# Altium footprint library BeagleBoneCape.PcbLib: 2 footprints
Each footprint in its own frame and in the unit in brackets; x right, y up, seen from the top. Pads: shape width x height; smd on the part's side, far side on the other; paste and mask are expansions set on the pad; w line width, h text height; cw(c..) or ccw(c..) is an arc to the next point about the centre after c.
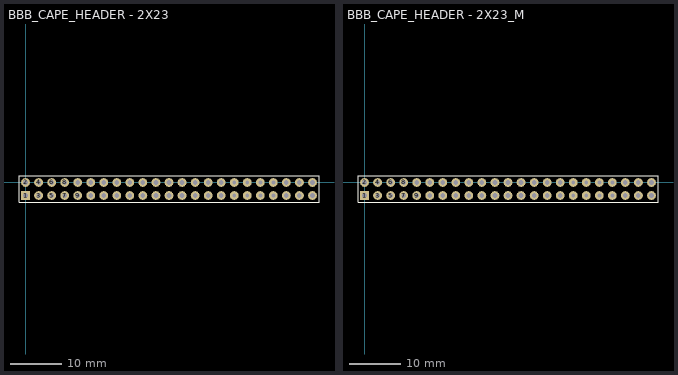
[diagram p0: the footprints below, top view; thin cyan lines are the x and y axes]

## BBB_CAPE_HEADER - 2X23 [mm] "46-pin male header for BeagleBone Black P8,P9"
pads (46):
  rect 1.7x1.7 hole 0.9: 1(0,-2.54)
  round 1.7 hole 0.9: 2(0,0) 3(2.54,-2.54) 4(2.54,0) 5(5.08,-2.54) 6(5.08,0) 7(7.62,-2.54) 8(7.62,0) 9(10.16,-2.54) 10(10.16,0) 11(12.7,-2.54) 12(12.7,0) 13(15.24,-2.54) 14(15.24,0) 15(17.78,-2.54) 16(17.78,0) 17(20.32,-2.54) 18(20.32,0) 19(22.86,-2.54) 20(22.86,0) 21(25.4,-2.54) 22(25.4,0) 23(27.94,-2.54) 24(27.94,0) 25(30.48,-2.54) 26(30.48,0) 27(33.02,-2.54) 28(33.02,0) 29(35.56,-2.54) 30(35.56,0) 31(38.1,-2.54) 32(38.1,0) 41(50.8,-2.54) 42(50.8,0) 43(53.34,-2.54) 44(53.34,0) 45(55.88,-2.54) 46(55.88,0)
  round 1.7 hole 0.762: 33(40.64,-2.54) 34(40.64,0) 35(43.18,-2.54) 36(43.18,0) 37(45.72,-2.54) 38(45.72,0) 39(48.26,-2.54) 40(48.26,0)
Top Overlay:
  lines w0.2: 57.15,1.25 57.15,-3.81 -1.27,-3.81 -1.27,1.27 0.635,1.27 57.15,1.27
3D body "HDR2.54-1P.STEP": height 8.5, standoff -3, extent 49.53,-1.27 52.07,1.27
3D body "HDR2.54-1P.STEP": height 8.5, standoff -3, extent 52.07,-3.81 54.61,-1.27
3D body "HDR2.54-1P.STEP": height 8.5, standoff -3, extent 24.13,-1.27 26.67,1.27
3D body "HDR2.54-1P.STEP": height 8.5, standoff -3, extent 52.07,-1.27 54.61,1.27
3D body "HDR2.54-1P.STEP": height 8.5, standoff -3, extent 36.83,-1.27 39.37,1.27
3D body "HDR2.54-1P.STEP": height 8.5, standoff -3, extent 21.59,-3.81 24.13,-1.27
3D body "HDR2.54-1P.STEP": height 8.5, standoff -3, extent 21.59,-1.27 24.13,1.27
3D body "HDR2.54-1P.STEP": height 8.5, standoff -3, extent 19.05,-1.27 21.59,1.27
3D body "HDR2.54-1P.STEP": height 8.5, standoff -3, extent 54.61,-3.81 57.15,-1.27
3D body "HDR2.54-1P.STEP": height 8.5, standoff -3, extent 54.61,-1.27 57.15,1.27
3D body "HDR2.54-1P.STEP": height 8.5, standoff -3, extent 3.81,-1.27 6.35,1.27
3D body "HDR2.54-1P.STEP": height 8.5, standoff -3, extent 1.27,-1.27 3.81,1.27
3D body "HDR2.54-1P.STEP": height 8.5, standoff -3, extent -1.27,-1.27 1.27,1.27
3D body "HDR2.54-1P.STEP": height 8.5, standoff -3, extent 16.51,-1.27 19.05,1.27
3D body "HDR2.54-1P.STEP": height 8.5, standoff -3, extent 13.97,-3.81 16.51,-1.27
3D body "HDR2.54-1P.STEP": height 8.5, standoff -3, extent 13.97,-1.27 16.51,1.27
3D body "HDR2.54-1P.STEP": height 8.5, standoff -3, extent 11.43,-3.81 13.97,-1.27
3D body "HDR2.54-1P.STEP": height 8.5, standoff -3, extent 11.43,-1.27 13.97,1.27
3D body "HDR2.54-1P.STEP": height 8.5, standoff -3, extent 8.89,-3.81 11.43,-1.27
3D body "HDR2.54-1P.STEP": height 8.5, standoff -3, extent 8.89,-1.27 11.43,1.27
3D body "HDR2.54-1P.STEP": height 8.5, standoff -3, extent 6.35,-3.81 8.89,-1.27
3D body "HDR2.54-1P.STEP": height 8.5, standoff -3, extent 3.81,-3.81 6.35,-1.27
3D body "HDR2.54-1P.STEP": height 8.5, standoff -3, extent 1.27,-3.81 3.81,-1.27
3D body "HDR2.54-1P.STEP": height 8.5, standoff -3, extent -1.27,-3.81 1.27,-1.27
3D body "HDR2.54-1P.STEP": height 8.5, standoff -3, extent 6.35,-1.27 8.89,1.27
3D body "HDR2.54-1P.STEP": height 8.5, standoff -3, extent 16.51,-3.81 19.05,-1.27
3D body "HDR2.54-1P.STEP": height 8.5, standoff -3, extent 24.13,-3.81 26.67,-1.27
3D body "HDR2.54-1P.STEP": height 8.5, standoff -3, extent 26.67,-1.27 29.21,1.27
3D body "HDR2.54-1P.STEP": height 8.5, standoff -3, extent 26.67,-3.81 29.21,-1.27
3D body "HDR2.54-1P.STEP": height 8.5, standoff -3, extent 29.21,-1.27 31.75,1.27
3D body "HDR2.54-1P.STEP": height 8.5, standoff -3, extent 29.21,-3.81 31.75,-1.27
3D body "HDR2.54-1P.STEP": height 8.5, standoff -3, extent 31.75,-1.27 34.29,1.27
3D body "HDR2.54-1P.STEP": height 8.5, standoff -3, extent 31.75,-3.81 34.29,-1.27
3D body "HDR2.54-1P.STEP": height 8.5, standoff -3, extent 34.29,-1.27 36.83,1.27
3D body "HDR2.54-1P.STEP": height 8.5, standoff -3, extent 34.29,-3.81 36.83,-1.27
3D body "HDR2.54-1P.STEP": height 8.5, standoff -3, extent 36.83,-3.81 39.37,-1.27
3D body "HDR2.54-1P.STEP": height 8.5, standoff -3, extent 39.37,-1.27 41.91,1.27
3D body "HDR2.54-1P.STEP": height 8.5, standoff -3, extent 39.37,-3.81 41.91,-1.27
3D body "HDR2.54-1P.STEP": height 8.5, standoff -3, extent 41.91,-1.27 44.45,1.27
3D body "HDR2.54-1P.STEP": height 8.5, standoff -3, extent 41.91,-3.81 44.45,-1.27
3D body "HDR2.54-1P.STEP": height 8.5, standoff -3, extent 44.45,-1.27 46.99,1.27
3D body "HDR2.54-1P.STEP": height 8.5, standoff -3, extent 46.99,-1.27 49.53,1.27
3D body "HDR2.54-1P.STEP": height 8.5, standoff -3, extent 44.45,-3.81 46.99,-1.27
3D body "HDR2.54-1P.STEP": height 8.5, standoff -3, extent 46.99,-3.81 49.53,-1.27
3D body "HDR2.54-1P.STEP": height 8.5, standoff -3, extent 49.53,-3.81 52.07,-1.27
3D body "HDR2.54-1P.STEP": height 8.5, standoff -3, extent 19.05,-3.81 21.59,-1.27

## BBB_CAPE_HEADER - 2X23_M [mm] "46-pin male header for BeagleBone Black P8,P9"
pads (46):
  rect 1.7x1.7 hole 0.9: 1(0,-2.54)
  round 1.7 hole 0.9: 2(0,0) 3(2.54,-2.54) 4(2.54,0) 5(5.08,-2.54) 6(5.08,0) 7(7.62,-2.54) 8(7.62,0) 9(10.16,-2.54) 10(10.16,0) 11(12.7,-2.54) 12(12.7,0) 13(15.24,-2.54) 14(15.24,0) 15(17.78,-2.54) 16(17.78,0) 17(20.32,-2.54) 18(20.32,0) 19(22.86,-2.54) 20(22.86,0) 21(25.4,-2.54) 22(25.4,0) 23(27.94,-2.54) 24(27.94,0) 25(30.48,-2.54) 26(30.48,0) 27(33.02,-2.54) 28(33.02,0) 29(35.56,-2.54) 30(35.56,0) 31(38.1,-2.54) 32(38.1,0) 41(50.8,-2.54) 42(50.8,0) 43(53.34,-2.54) 44(53.34,0) 45(55.88,-2.54) 46(55.88,0)
  round 1.7 hole 0.762: 33(40.64,-2.54) 34(40.64,0) 35(43.18,-2.54) 36(43.18,0) 37(45.72,-2.54) 38(45.72,0) 39(48.26,-2.54) 40(48.26,0)
Top Overlay:
  lines w0.2: 57.15,1.25 57.15,-3.81 -1.27,-3.81 -1.27,1.27 0.635,1.27 57.15,1.27
3D body "HDR2.54-1P_M.STEP": height 8.5, standoff -3, extent 8.89,-1.27 11.43,1.27
3D body "HDR2.54-1P_M.STEP": height 8.5, standoff -3, extent 6.35,-1.27 8.89,1.27
3D body "HDR2.54-1P_M.STEP": height 8.5, standoff -3, extent 3.81,-1.27 6.35,1.27
3D body "HDR2.54-1P_M.STEP": height 8.5, standoff -3, extent 1.27,-1.27 3.81,1.27
3D body "HDR2.54-1P_M.STEP": height 8.5, standoff -3, extent -1.27,-1.27 1.27,1.27
3D body "HDR2.54-1P_M.STEP": height 8.5, standoff -3, extent 21.59,-1.27 24.13,1.27
3D body "HDR2.54-1P_M.STEP": height 8.5, standoff -3, extent 19.05,-1.27 21.59,1.27
3D body "HDR2.54-1P_M.STEP": height 8.5, standoff -3, extent 16.51,-1.27 19.05,1.27
3D body "HDR2.54-1P_M.STEP": height 8.5, standoff -3, extent 13.97,-1.27 16.51,1.27
3D body "HDR2.54-1P_M.STEP": height 8.5, standoff -3, extent 11.43,-1.27 13.97,1.27
3D body "HDR2.54-1P_M.STEP": height 8.5, standoff -3, extent 31.75,-1.27 34.29,1.27
3D body "HDR2.54-1P_M.STEP": height 8.5, standoff -3, extent 29.21,-1.27 31.75,1.27
3D body "HDR2.54-1P_M.STEP": height 8.5, standoff -3, extent 26.67,-1.27 29.21,1.27
3D body "HDR2.54-1P_M.STEP": height 8.5, standoff -3, extent 24.13,-1.27 26.67,1.27
3D body "HDR2.54-1P_M.STEP": height 8.5, standoff -3, extent 46.99,-1.27 49.53,1.27
3D body "HDR2.54-1P_M.STEP": height 8.5, standoff -3, extent 44.45,-1.27 46.99,1.27
3D body "HDR2.54-1P_M.STEP": height 8.5, standoff -3, extent 41.91,-1.27 44.45,1.27
3D body "HDR2.54-1P_M.STEP": height 8.5, standoff -3, extent 39.37,-1.27 41.91,1.27
3D body "HDR2.54-1P_M.STEP": height 8.5, standoff -3, extent 36.83,-1.27 39.37,1.27
3D body "HDR2.54-1P_M.STEP": height 8.5, standoff -3, extent 34.29,-1.27 36.83,1.27
3D body "HDR2.54-1P_M.STEP": height 8.5, standoff -3, extent 54.61,-1.27 57.15,1.27
3D body "HDR2.54-1P_M.STEP": height 8.5, standoff -3, extent 52.07,-1.27 54.61,1.27
3D body "HDR2.54-1P_M.STEP": height 8.5, standoff -3, extent 49.53,-1.27 52.07,1.27
3D body "HDR2.54-1P_M.STEP": height 8.5, standoff -3, extent 8.89,-3.81 11.43,-1.27
3D body "HDR2.54-1P_M.STEP": height 8.5, standoff -3, extent 6.35,-3.81 8.89,-1.27
3D body "HDR2.54-1P_M.STEP": height 8.5, standoff -3, extent 3.81,-3.81 6.35,-1.27
3D body "HDR2.54-1P_M.STEP": height 8.5, standoff -3, extent 1.27,-3.81 3.81,-1.27
3D body "HDR2.54-1P_M.STEP": height 8.5, standoff -3, extent -1.27,-3.81 1.27,-1.27
3D body "HDR2.54-1P_M.STEP": height 8.5, standoff -3, extent 21.59,-3.81 24.13,-1.27
3D body "HDR2.54-1P_M.STEP": height 8.5, standoff -3, extent 19.05,-3.81 21.59,-1.27
3D body "HDR2.54-1P_M.STEP": height 8.5, standoff -3, extent 16.51,-3.81 19.05,-1.27
3D body "HDR2.54-1P_M.STEP": height 8.5, standoff -3, extent 13.97,-3.81 16.51,-1.27
3D body "HDR2.54-1P_M.STEP": height 8.5, standoff -3, extent 11.43,-3.81 13.97,-1.27
3D body "HDR2.54-1P_M.STEP": height 8.5, standoff -3, extent 31.75,-3.81 34.29,-1.27
3D body "HDR2.54-1P_M.STEP": height 8.5, standoff -3, extent 29.21,-3.81 31.75,-1.27
3D body "HDR2.54-1P_M.STEP": height 8.5, standoff -3, extent 26.67,-3.81 29.21,-1.27
3D body "HDR2.54-1P_M.STEP": height 8.5, standoff -3, extent 24.13,-3.81 26.67,-1.27
3D body "HDR2.54-1P_M.STEP": height 8.5, standoff -3, extent 46.99,-3.81 49.53,-1.27
3D body "HDR2.54-1P_M.STEP": height 8.5, standoff -3, extent 44.45,-3.81 46.99,-1.27
3D body "HDR2.54-1P_M.STEP": height 8.5, standoff -3, extent 41.91,-3.81 44.45,-1.27
3D body "HDR2.54-1P_M.STEP": height 8.5, standoff -3, extent 39.37,-3.81 41.91,-1.27
3D body "HDR2.54-1P_M.STEP": height 8.5, standoff -3, extent 36.83,-3.81 39.37,-1.27
3D body "HDR2.54-1P_M.STEP": height 8.5, standoff -3, extent 34.29,-3.81 36.83,-1.27
3D body "HDR2.54-1P_M.STEP": height 8.5, standoff -3, extent 54.61,-3.81 57.15,-1.27
3D body "HDR2.54-1P_M.STEP": height 8.5, standoff -3, extent 52.07,-3.81 54.61,-1.27
3D body "HDR2.54-1P_M.STEP": height 8.5, standoff -3, extent 49.53,-3.81 52.07,-1.27